# Altium footprint library Anderson Power Dual 30Amp.PcbLib: 1 footprints
Each footprint in its own frame and in the unit in brackets; x right, y up, seen from the top. Pads: shape width x height; smd on the part's side, far side on the other; paste and mask are expansions set on the pad; w line width, h text height; cw(c..) or ccw(c..) is an arc to the next point about the centre after c.
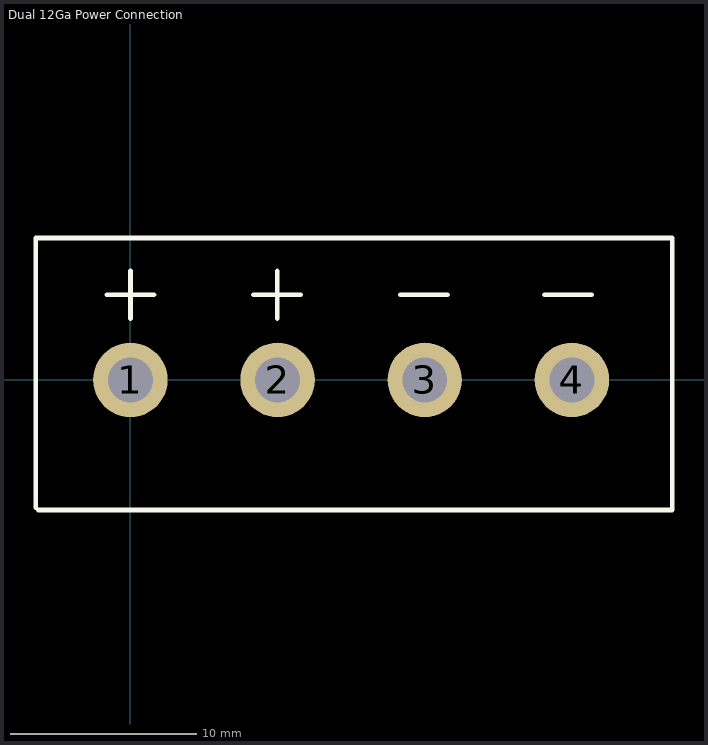
[diagram p0: the footprint, top view; thin cyan lines are the x and y axes]

## Dual 12Ga Power Connection [mm]
pads (4):
  round 4 hole 2.4: 1(0,0) 2(7.9,0) 3(15.8,0) 4(23.7,0)
Top Overlay:
  lines w0.254: -5.08,-6.858 -5.08,7.62 29.083,7.62 29.083,-6.985 -4.953,-6.985 ; -1.27,4.572 1.27,4.572 ; 0,3.302 0,5.842 ; 6.604,4.572 9.144,4.572 ; 7.874,3.302 7.874,5.842 ; 14.478,4.572 17.018,4.572 ; 22.225,4.572 24.765,4.572